# Altium schematic symbol library Single 2input NAND.SchLib: 1 symbol
Pins are listed as number, name and electrical type; pins without a type are passive.

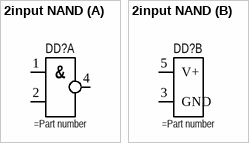
[diagram p0: symbol 2input NAND]

## 2input NAND
designator DD?
Single 2-Input Positive-NAND Gate
part A pins: 1, 2, 4
part B pins: 3 GND, 5 V+
part A text: &